# EAGLE library part TEENSY3 (library Teensy)
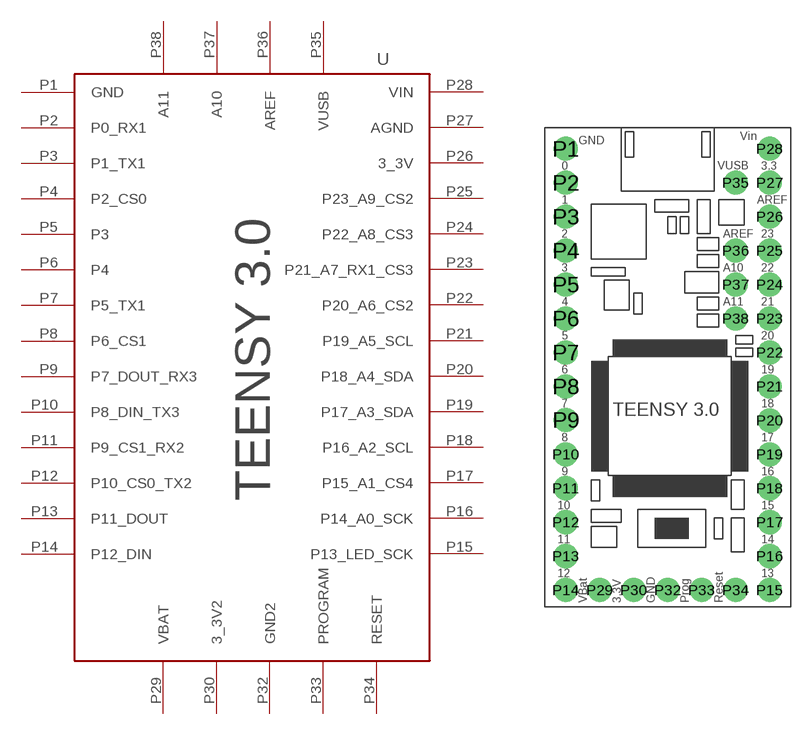
[diagram p0: symbol with the pads of TEENSY3_BRD; footprint TEENSY3_BRD]

Designator prefix -

## TEENSY3  [TEENSY3_BRD]
P1  GND
P2  P0_RX1
P3  P1_TX1
P4  P2_CS0
P5  P3
P6  P4
P7  P5_TX1
P8  P6_CS1
P9  P7_DOUT_RX3
P10  P8_DIN_TX3
P11  P9_CS1_RX2
P12  P10_CS0_TX2
P13  P11_DOUT
P14  P12_DIN
P15  P13_LED_SCK
P16  P14_A0_SCK
P17  P15_A1_CS4
P18  P16_A2_SCL
P19  P17_A3_SDA
P20  P18_A4_SDA
P21  P19_A5_SCL
P22  P20_A6_CS2
P23  P21_A7_RX1_CS3
P24  P22_A8_CS3
P25  P23_A9_CS2
P26  3_3V
P27  AGND
P28  VIN
P29  VBAT
P30  3_3V2
P32  GND2
P33  PROGRAM
P34  RESET
P35  VUSB
P36  AREF
P37  A10
P38  A11

## Footprint TEENSY3_BRD (pad centres in mm)
Modified p9.. somehow it floated
drill 1.2 round: P1 -7.62,17.145; P2 -7.62,14.605; P3 -7.62,12.065; P4 -7.62,9.525; P5 -7.62,6.985; P6 -7.62,4.445; P7 -7.62,1.905; P8 -7.62,-0.635; P9 -7.612,-3.135; P10 -7.62,-5.715; P11 -7.62,-8.255; P12 -7.62,-10.795; P13 -7.62,-13.335; P14 -7.62,-15.875; P15 7.62,-15.875; P16 7.62,-13.335; P17 7.62,-10.795; P18 7.62,-8.255; P19 7.62,-5.715; P20 7.62,-3.175; P21 7.62,-0.635; P22 7.62,1.905; P23 7.62,4.445; P24 7.62,6.985; P25 7.62,9.525; P26 7.62,12.065; P27 7.62,14.605; P28 7.62,17.145; P29 -5.08,-15.875; P30 -2.54,-15.875; P32 0,-15.875; P33 2.54,-15.875; P34 5.08,-15.875; P35 5.08,14.605; P36 5.08,9.525; P37 5.08,6.985; P38 5.08,4.445